# EAGLE library part ARDUINO_MEGA_MINI (library ARDUINO_MEGA_MINI)
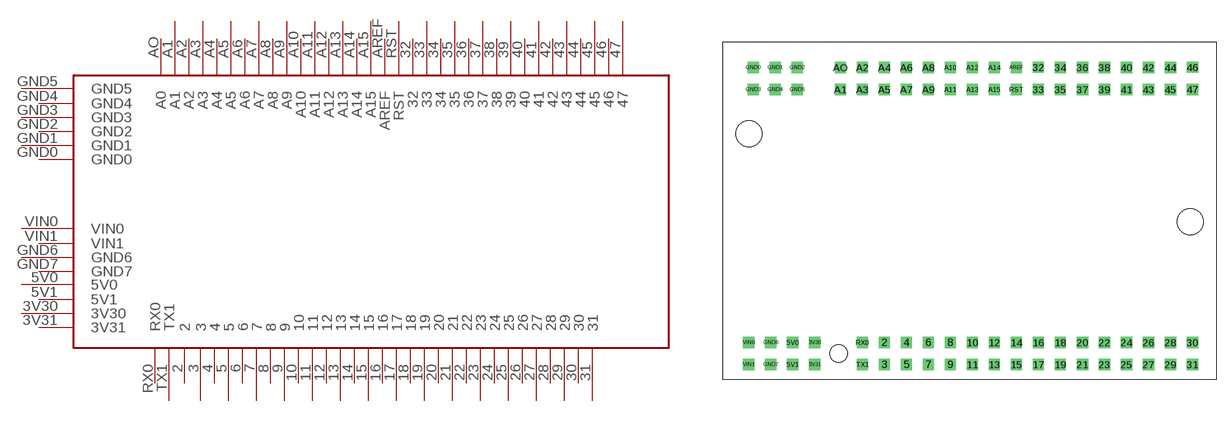
[diagram p0: symbol with the pads of ARDUINO_MEGA_MINI; footprint ARDUINO_MEGA_MINI]

Designator prefix -

## ARDUINO_MEGA_MINI  [ARDUINO_MEGA_MINI]
2  2
3  3
3V30  3V30
3V31  3V31
4  4
5  5
5V0  5V0
5V1  5V1
6  6
7  7
8  8
9  9
10  10
11  11
12  12
13  13
14  14
15  15
16  16
17  17
18  18
19  19
20  20
21  21
22  22
23  23
24  24
25  25
26  26
27  27
28  28
29  29
30  30
31  31
32  32
33  33
34  34
35  35
36  36
37  37
38  38
39  39
40  40
41  41
42  42
43  43
44  44
45  45
46  46
47  47
A1  A1  in
A2  A2  in
A3  A3  in
A4  A4  in
A5  A5  in
A6  A6  in
A7  A7  in
A8  A8  in
A9  A9  in
A10  A10  in
A11  A11  in
A12  A12  in
A13  A13  in
A14  A14  in
A15  A15  in
AO  A0  in
AREF  AREF
GND0  GND0
GND1  GND1
GND2  GND2
GND3  GND3
GND4  GND4
GND5  GND5
GND6  GND6
GND7  GND7
RST  RST  out
RX0  RX0
TX1  TX1
VIN0  VIN0  in
VIN1  VIN1  in

## Footprint ARDUINO_MEGA_MINI (pad centres in mm)
drill 0.8 square: 2 17.66,3.27; 3 17.66,0.73; 3V30 9.62,3.27; 3V31 9.62,0.73; 4 20.2,3.27; 5 20.2,0.73; 5V0 7.08,3.27; 5V1 7.08,0.73; 6 22.74,3.27; 7 22.74,0.73; 8 25.28,3.27; 9 25.28,0.73; 10 27.82,3.27; 11 27.82,0.73; 12 30.36,3.27; 13 30.36,0.73; 14 32.9,3.27; 15 32.9,0.73; 16 35.44,3.27; 17 35.44,0.73; 18 37.98,3.27; 19 37.98,0.73; 20 40.52,3.27; 21 40.52,0.73; 22 43.06,3.27; 23 43.06,0.73; 24 45.6,3.27; 25 45.6,0.73; 26 48.14,3.27; 27 48.14,0.73; 28 50.68,3.27; 29 50.68,0.73; 30 53.22,3.27; 31 53.22,0.73; 32 35.44,35.02; 33 35.44,32.46; 34 37.98,35; 35 37.98,32.46; 36 40.52,35; 37 40.52,32.46; 38 43.06,35; 39 43.06,32.46; 40 45.6,35; 41 45.6,32.46; 42 48.14,35; 43 48.14,32.46; 44 50.68,35; 45 50.68,32.46; 46 53.22,35.02; 47 53.22,32.48; A1 12.58,32.46; A2 15.12,35; A3 15.12,32.46; A4 17.66,35; A5 17.66,32.46; A6 20.2,35; A7 20.2,32.46; A8 22.74,35; A9 22.74,32.46; A10 25.28,35; A11 25.28,32.46; A12 27.82,35; A13 27.82,32.46; A14 30.36,35; A15 30.36,32.46; AO 12.58,35; AREF 32.9,35; GND0 2.5,35; GND1 5.04,35; GND2 7.58,35; GND3 2.5,32.46; GND4 5.04,32.46; GND5 7.58,32.46; GND6 4.54,3.27; GND7 4.54,0.73; RST 32.9,32.46; RX0 15.12,3.27; TX1 15.12,0.73; VIN0 2,3.27; VIN1 2,0.73
hole 2 at 12.37,2
hole 3 at 2,27.38
hole 3 at 53,17.22